# Altium footprint library Tray2.PcbLib: 104 footprints (part 6 of 7)
Each footprint in its own frame and in the unit in brackets; x right, y up, seen from the top. Pads: shape width x height; smd on the part's side, far side on the other; paste and mask are expansions set on the pad; w line width, h text height; cw(c..) or ccw(c..) is an arc to the next point about the centre after c.
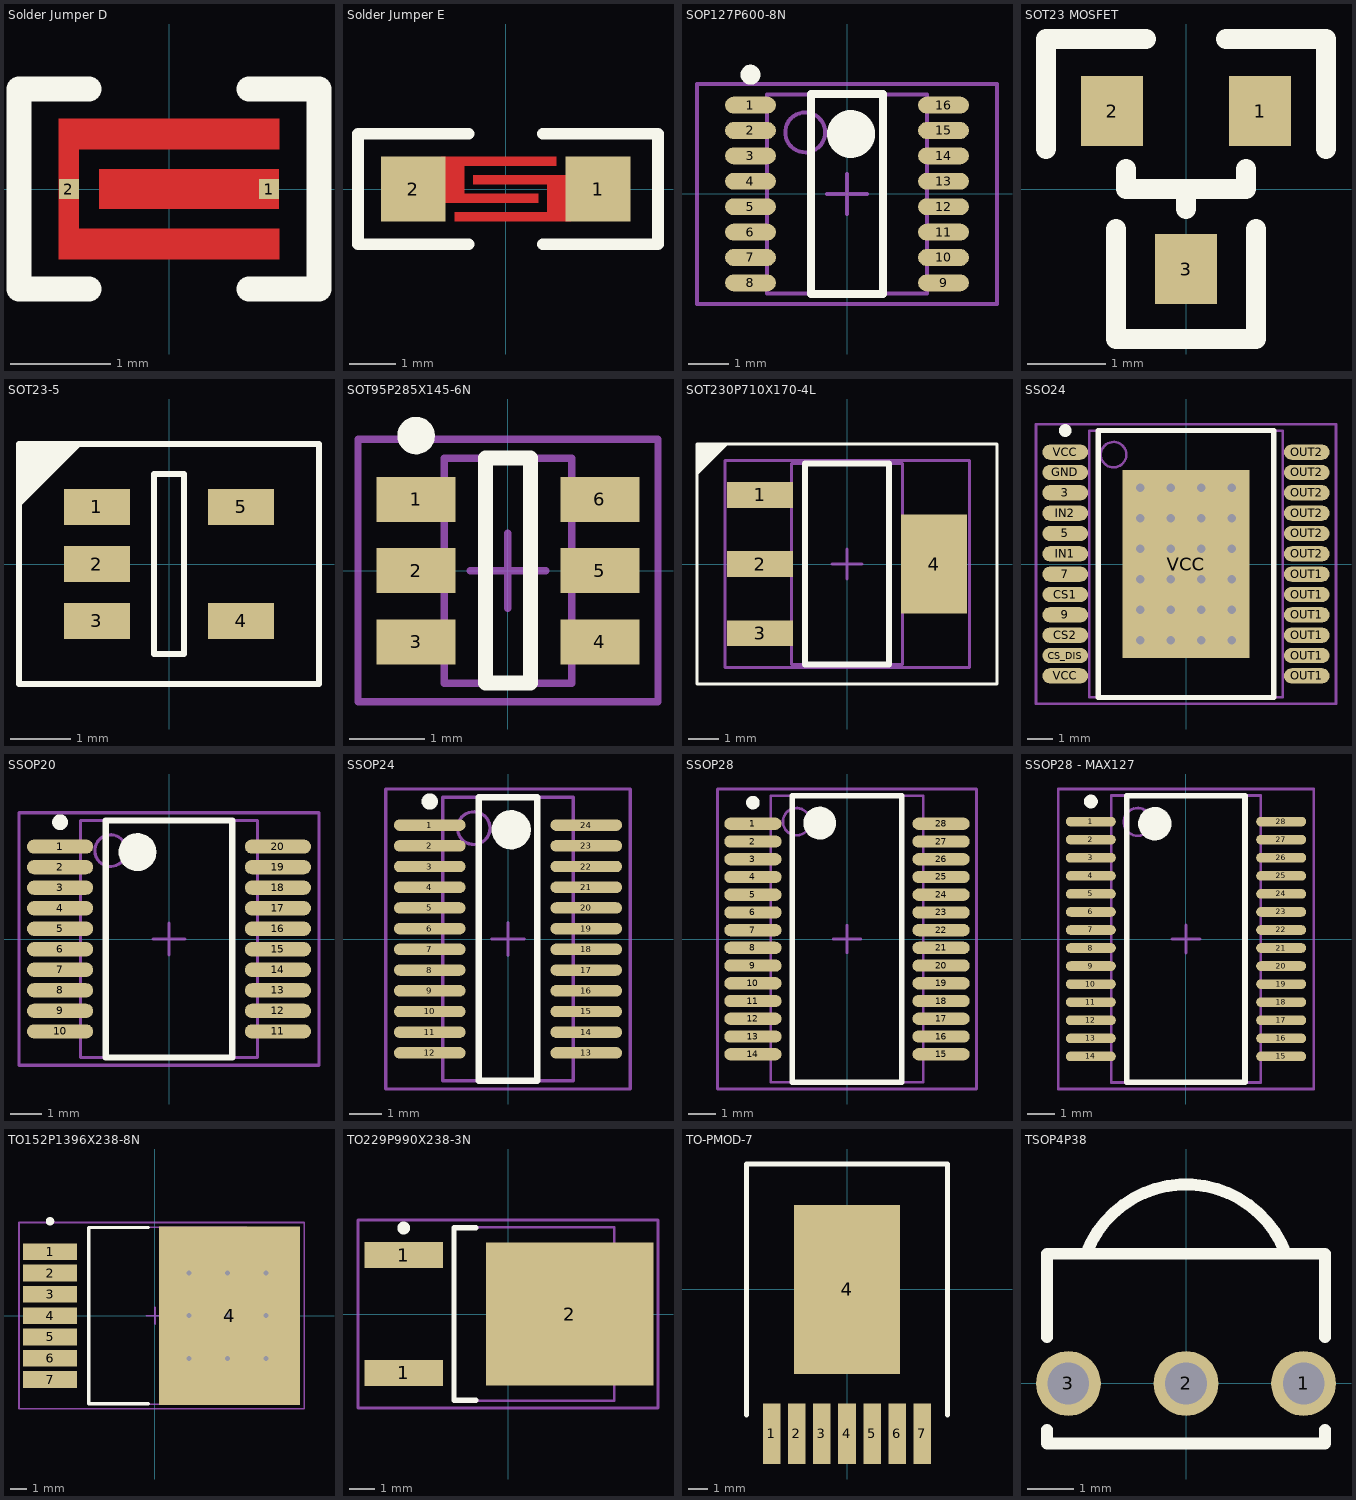
[diagram p5: the footprints below, top view; thin cyan lines are the x and y axes]

## Solder Jumper D [mm] "Solder Jumper D"
pads (2):
  rect 0.2x0.2 smd: 1(1,0) 2(-1,0)
Top Layer:
  rectangle: -0.7,-0.2 1.1,0.2
  region: 1.1,0.4 1.1,0.7 -1.1,0.7 -1.1,-0.7 1.1,-0.7 1.1,-0.4 -0.9,-0.4 -0.9,0.4
Top Overlay:
  lines w0.254: -0.8,-1 -1.5,-1 -1.5,1 -0.8,1 ; 0.8,-1 1.5,-1 1.5,1 0.8,1
Top Solder:
  region: 1.2,0.8 1.2,-0.8 -1.2,-0.8 -1.2,0.8

## Solder Jumper E [mm] "Solder Jumper E"
pads (2):
  rect 1.4x1.4 smd: 1(2,0) 2(-2,0)
Top Layer:
  region: -0.7,0.3 -0.7,0.1 0.9,0.1 0.9,-0.5 -1.1,-0.5 -1.1,-0.7 1.4,-0.7 1.4,0.3
  region: -1.4,0.7 1.1,0.7 1.1,0.5 -0.9,0.5 -0.9,-0.1 0.7,-0.1 0.7,-0.3 -1.4,-0.3
Top Overlay:
  lines w0.254: -0.8,-1.2 -3.2,-1.2 -3.2,1.2 -0.8,1.2 ; 0.8,-1.2 3.3,-1.2 3.3,1.2 0.8,1.2
Top Solder:
  region: 1.5,0.8 1.5,-0.8 -1.5,-0.8 -1.5,0.8

## SOP127P600-8N [mil]
height 68.9
pads (16):
  oval 50x16.5 smd: 1(-95,87.5) 2(-95,62.5) 3(-95,37.5) 4(-95,12.5) 5(-95,-12.5) 6(-95,-37.5) 7(-95,-62.5) 8(-95,-87.5) 9(95,-87.5) 10(95,-62.5) 11(95,-37.5) 12(95,-12.5) 13(95,12.5) 14(95,37.5) 15(95,62.5) 16(95,87.5)
Top Overlay:
  circle w23.62: c3.94,59.06 r11.81
  circle w9.84: c-95,117.4 r4.92
  lines w7.87: -35.43,-98.43 35.43,-98.43 35.43,98.43 -35.43,98.43 -35.43,-98.43
Mechanical 13:
  circle w3.94: c-41.14,60.63 r19.68
  lines w3.94: -78.54,-98.03 78.54,-98.03 78.54,98.03 -78.54,98.03 -78.54,-98.03
Mechanical 15:
  lines w3.94: -19.68,0 19.68,0 ; 0,-19.68 0,19.68 ; -147.64,-108.27 147.64,-108.27 147.64,108.27 -147.64,108.27 -147.64,-108.27
3D body: height 68.9, standoff 9.84, extent -78.54,-98.03 78.54,98.03

## SOT23 MOSFET [mil]
pads (3):
  rect 31x35 smd: 1(37,39) 2(-37,39) 3(0,-40)
Top Overlay:
  lines w10: -70,20 -70,75 -20,75 ; -35,-20 -35,-75 35,-75 35,-20 ; -30,10 -30,0 30,0 30,10 ; 0,-10 0,0 ; 20,75 70,75 70,20

## SOT23-5 [mm] "SOT23, 5-Leads, Body 3.0x3.0mm (max), Pitch 0.95mm, IPC Medium Density"
height 1.45
pads (5):
  rect 1.1x0.6 smd: 1(-1.2,0.95) 2(-1.2,0) 3(-1.2,-0.95) 4(1.2,-0.95) 5(1.2,0.95)
Top Overlay:
  region: -2.5,1 -2.5,2 -1.5,2
  lines w0.1: -2.5,1 -1.5,2 ; -2.5,-2 -2.5,2 2.5,2 2.5,-2 -2.5,-2 ; -0.25,-1.5 0.25,-1.5 0.25,1.5 -0.25,1.5 -0.25,-1.5
3D body: height 1.45, standoff 0, extent -0.85,-1.5 0.85,1.5

## SOT95P285X145-6N [mm] "SOT23, 6-Leads, Body 3.0x3.0mm (max), Pitch 0.95mm, IPC Medium Density"
height 1.45
pads (6):
  rect 1.05x0.6 smd: 1(-1.225,0.95) 2(-1.225,0) 3(-1.225,-0.95) 4(1.225,-0.95) 5(1.225,0) 6(1.225,0.95)
Top Overlay:
  circle w0.25: c-1.225,1.8 r0.125
  lines w0.2: -0.3,-1.5 -0.3,1.5 0.3,1.5 0.3,-1.5 -0.3,-1.5
Mechanical 13:
  lines w0.1: -0.85,-1.5 0.85,-1.5 0.85,1.5 -0.85,1.5 -0.85,-1.5
Mechanical 15:
  lines w0.1: -0.5,0 0.5,0 ; 0,-0.5 0,0.5 ; -2,-1.75 2,-1.75 2,1.75 -2,1.75 -2,-1.75
3D body: height 1.45, standoff 0.05, extent -0.85,-1.5 0.85,1.5

## SOT230P710X170-4L [mm] "SOT223, 4-Leads, Body 6.7x7.5mm (max), Pitch 2.30mm, IPC High Density"
height 1.7
pads (4):
  rect 2.2x0.85 smd: 1(-2.9,2.3) 2(-2.9,0) 3(-2.9,-2.3)
  rect 2.2x3.3 smd: 4(2.9,0)
Top Overlay:
  region: -4,4 -5,4 -5,3
  lines w0.1: -5,3 -4,4 ; -5,-4 -5,4 5,4 5,-4 -5,-4
  lines w0.2: -1.4,-3.35 1.4,-3.35 1.4,3.35 -1.4,3.35 -1.4,-3.35
Mechanical 13:
  lines w0.1: -1.855,-3.35 1.855,-3.35 1.855,3.35 -1.855,3.35 -1.855,-3.35
Mechanical 15:
  lines w0.1: -0.5,0 0.5,0 ; 0,-0.5 0,0.5 ; -4.075,-3.45 4.075,-3.45 4.075,3.45 -4.075,3.45 -4.075,-3.45
3D body: height 1.7, standoff 0.02, extent -1.855,-3.35 1.855,3.35

## SSO24 [mm]
height 2.45
pads (25):
  oval 1.8x0.6 smd: 3(-4.75,2.8) 5(-4.75,1.2) 7(-4.75,-0.4) 9(-4.75,-2) CS1(-4.75,-1.2) CS2(-4.75,-2.8) CS_DIS(-4.75,-3.6) GND(-4.75,3.6) IN1(-4.75,0.4) IN2(-4.75,2) OUT1(4.75,-4.4) OUT1(4.75,-3.6) OUT1(4.75,-2.8) OUT1(4.75,-2) OUT1(4.75,-1.2) OUT1(4.75,-0.4) OUT2(4.75,0.4) OUT2(4.75,1.2) OUT2(4.75,2) OUT2(4.75,2.8) OUT2(4.75,3.6) OUT2(4.75,4.4) VCC(-4.75,-4.4) VCC(-4.75,4.4)
  rect 5x7.4 smd: VCC(0,0)
via 1.8,-3 diameter 0.66 hole 0.33
via 0.6,-3 diameter 0.66 hole 0.33
via -0.6,-3 diameter 0.66 hole 0.33
via -1.8,-3 diameter 0.66 hole 0.33
via 1.8,-1.8 diameter 0.66 hole 0.33
via 0.6,-1.8 diameter 0.66 hole 0.33
via -0.6,-1.8 diameter 0.66 hole 0.33
via -1.8,-1.8 diameter 0.66 hole 0.33
via 1.8,-0.6 diameter 0.66 hole 0.33
via 0.6,-0.6 diameter 0.66 hole 0.33
via -0.6,-0.6 diameter 0.66 hole 0.33
via -1.8,-0.6 diameter 0.66 hole 0.33
via 1.8,0.6 diameter 0.66 hole 0.33
via 0.6,0.6 diameter 0.66 hole 0.33
via -0.6,0.6 diameter 0.66 hole 0.33
via -1.8,0.6 diameter 0.66 hole 0.33
via 1.8,1.8 diameter 0.66 hole 0.33
via 0.6,1.8 diameter 0.66 hole 0.33
via -0.6,1.8 diameter 0.66 hole 0.33
via -1.8,1.8 diameter 0.66 hole 0.33
via 1.8,3 diameter 0.66 hole 0.33
via 0.6,3 diameter 0.66 hole 0.33
via -0.6,3 diameter 0.66 hole 0.33
via -1.8,3 diameter 0.66 hole 0.33
Top Overlay:
  circle w0.25: c-4.75,5.25 r0.125
  lines w0.2: -3.45,-5.25 3.45,-5.25 3.45,5.25 -3.45,5.25 -3.45,-5.25
Mechanical 13:
  circle w0.1: c-2.85,4.3 r0.5
  lines w0.1: -3.8,-5.25 3.8,-5.25 3.8,5.25 -3.8,5.25 -3.8,-5.25
Mechanical 15:
  lines w0.1: -0.5,0 0.5,0 ; 0,-0.5 0,0.5 ; -5.9,-5.5 5.9,-5.5 5.9,5.5 -5.9,5.5 -5.9,-5.5
3D body: height 2.45, standoff 0.1, extent -3.8,-5.25 3.8,5.25

## SSOP20 [mm]
height 2
pads (20):
  oval 2.1x0.45 smd: 1(-3.45,2.925) 2(-3.45,2.275) 3(-3.45,1.625) 4(-3.45,0.975) 5(-3.45,0.325) 6(-3.45,-0.325) 7(-3.45,-0.975) 8(-3.45,-1.625) 9(-3.45,-2.275) 10(-3.45,-2.925) 11(3.45,-2.925) 12(3.45,-2.275) 13(3.45,-1.625) 14(3.45,-0.975) 15(3.45,-0.325) 16(3.45,0.325) 17(3.45,0.975) 18(3.45,1.625) 19(3.45,2.275) 20(3.45,2.925)
Top Overlay:
  circle w0.6: c-1,2.75 r0.3
  circle w0.25: c-3.45,3.7 r0.125
  lines w0.2: -2,-3.75 2,-3.75 2,3.75 -2,3.75 -2,-3.75
Mechanical 13:
  circle w0.1: c-1.85,2.8 r0.5
  lines w0.1: -2.8,-3.75 2.8,-3.75 2.8,3.75 -2.8,3.75 -2.8,-3.75
Mechanical 15:
  lines w0.1: -0.5,0 0.5,0 ; 0,-0.5 0,0.5 ; -4.75,-4 4.75,-4 4.75,4 -4.75,4 -4.75,-4
3D body: height 2, standoff 0.1, extent -2.8,-3.75 2.8,3.75

## SSOP24 [mm]
height 1.1
pads (24):
  oval 2.2x0.35 smd: 1(-2.4,3.492) 2(-2.4,2.857) 3(-2.4,2.222) 4(-2.4,1.587) 5(-2.4,0.953) 6(-2.4,0.318) 7(-2.4,-0.318) 8(-2.4,-0.953) 9(-2.4,-1.587) 10(-2.4,-2.222) 11(-2.4,-2.857) 12(-2.4,-3.492) 13(2.4,-3.492) 14(2.4,-2.857) 15(2.4,-2.222) 16(2.4,-1.587) 17(2.4,-0.953) 18(2.4,-0.318) 19(2.4,0.318) 20(2.4,0.953) 21(2.4,1.587) 22(2.4,2.222) 23(2.4,2.857) 24(2.4,3.492)
Top Overlay:
  circle w0.25: c-2.4,4.217 r0.125
  circle w0.6: c0.1,3.35 r0.3
  lines w0.2: -0.9,-4.35 -0.9,4.35 0.9,4.35 0.9,-4.35 -0.9,-4.35
Mechanical 13:
  circle w0.1: c-1.05,3.4 r0.5
  lines w0.1: -2,-4.35 -2,4.35 2,4.35 2,-4.35 -2,-4.35
Mechanical 15:
  lines w0.1: -0.5,0 0.5,0 ; 0,-0.5 0,0.5 ; -3.75,-4.6 -3.75,4.6 3.75,4.6 3.75,-4.6 -3.75,-4.6
3D body: height 1.1, standoff 0.1, extent -2,-4.35 2,4.35

## SSOP28 [mm]
height 2
pads (28):
  oval 2.1x0.45 smd: 1(-3.45,4.225) 2(-3.45,3.575) 3(-3.45,2.925) 4(-3.45,2.275) 5(-3.45,1.625) 6(-3.45,0.975) 7(-3.45,0.325) 8(-3.45,-0.325) 9(-3.45,-0.975) 10(-3.45,-1.625) 11(-3.45,-2.275) 12(-3.45,-2.925) 13(-3.45,-3.575) 14(-3.45,-4.225) 15(3.45,-4.225) 16(3.45,-3.575) 17(3.45,-2.925) 18(3.45,-2.275) 19(3.45,-1.625) 20(3.45,-0.975) 21(3.45,-0.325) 22(3.45,0.325) 23(3.45,0.975) 24(3.45,1.625) 25(3.45,2.275) 26(3.45,2.925) 27(3.45,3.575) 28(3.45,4.225)
Top Overlay:
  circle w0.6: c-1,4.25 r0.3
  circle w0.25: c-3.45,5 r0.125
  lines w0.2: -2,-5.25 2,-5.25 2,5.25 -2,5.25 -2,-5.25
Mechanical 13:
  circle w0.1: c-1.85,4.3 r0.5
  lines w0.1: -2.8,-5.25 2.8,-5.25 2.8,5.25 -2.8,5.25 -2.8,-5.25
Mechanical 15:
  lines w0.1: -0.5,0 0.5,0 ; 0,-0.5 0,0.5 ; -4.75,-5.5 4.75,-5.5 4.75,5.5 -4.75,5.5 -4.75,-5.5
3D body: height 2, standoff 0.1, extent -2.8,-5.25 2.8,5.25

## SSOP28 - MAX127 [mm] "SOP, 28-Leads, Body 10.3x5.4mm (max), Pitch 0.65mm, IPC Medium Density"
height 1.99
pads (28):
  oval 1.8x0.35 smd: 1(-3.425,4.225) 2(-3.425,3.575) 3(-3.425,2.925) 4(-3.425,2.275) 5(-3.425,1.625) 6(-3.425,0.975) 7(-3.425,0.325) 8(-3.425,-0.325) 9(-3.425,-0.975) 10(-3.425,-1.625) 11(-3.425,-2.275) 12(-3.425,-2.925) 13(-3.425,-3.575) 14(-3.425,-4.225) 15(3.425,-4.225) 16(3.425,-3.575) 17(3.425,-2.925) 18(3.425,-2.275) 19(3.425,-1.625) 20(3.425,-0.975) 21(3.425,-0.325) 22(3.425,0.325) 23(3.425,0.975) 24(3.425,1.625) 25(3.425,2.275) 26(3.425,2.925) 27(3.425,3.575) 28(3.425,4.225)
Top Overlay:
  circle w0.6: c-1.125,4.15 r0.3
  circle w0.25: c-3.425,4.95 r0.125
  lines w0.2: -2.125,-5.15 2.125,-5.15 2.125,5.15 -2.125,5.15 -2.125,-5.15
Mechanical 13:
  circle w0.1: c-1.74,4.215 r0.5
  lines w0.1: -2.69,-5.165 2.69,-5.165 2.69,5.165 -2.69,5.165 -2.69,-5.165
Mechanical 15:
  lines w0.1: -0.5,0 0.5,0 ; 0,-0.5 0,0.5 ; -4.6,-5.4 4.6,-5.4 4.6,5.4 -4.6,5.4 -4.6,-5.4
3D body: height 1.99, standoff 0.1, extent -2.69,-5.165 2.69,5.165

## TO152P1396X238-8N [mm] "D2-PAK, 8-Pads, Body 9.4x10.5mm (max), IPC Medium Density"
height 2.38
pads (8):
  rect 3.2x1 smd: 1(-6.25,3.81) 2(-6.25,2.54) 3(-6.25,1.27) 4(-6.25,0) 5(-6.25,-1.27) 6(-6.25,-2.54) 7(-6.25,-3.81)
  rect 8.382x10.65 smd: 4(4.445,0)
via 2.032,-2.54 diameter 0.5 hole 0.3
via 2.032,0 diameter 0.5 hole 0.3
via 2.032,2.54 diameter 0.5 hole 0.3
via 6.604,2.54 diameter 0.5 hole 0.3
via 6.604,0 diameter 0.5 hole 0.3
via 6.604,-2.54 diameter 0.5 hole 0.3
via 4.318,-2.54 diameter 0.5 hole 0.3
via 4.318,2.54 diameter 0.5 hole 0.3
via 4.318,0 diameter 0.5 hole 0.3
Top Overlay:
  circle w0.25: c-6.25,5.622 r0.125
  lines w0.2: -0.4,-5.25 -3.95,-5.25 -3.95,5.25 -0.4,5.25
Mechanical 13:
  lines w0.1: -3.95,-5.275 5.45,-5.275 5.45,5.275 -3.95,5.275 -3.95,-5.275
Mechanical 15:
  lines w0.1: -0.5,0 0.5,0 ; 0,-0.5 0,0.5 ; -8.1,-5.55 8.89,-5.55 8.89,5.55 -8.1,5.55 -8.1,-5.55
3D body: height 2.38, standoff 0, extent -3.95,-5.275 5.45,5.275

## TO229P990X238-3N [mm] "D-PAK, 3-Pads, Body 6.2x6.7mm (max), IPC Medium Density"
height 2.38
pads (3):
  rect 3.05x1 smd: 1(-4.05,-2.29) 1(-4.05,2.29)
  rect 6.5x5.55 smd: 2(2.4,0)
Top Overlay:
  circle w0.25: c-4.05,3.34 r0.125
  lines w0.2: -1.25,-3.35 -2.1,-3.35 -2.1,3.35 -1.25,3.35
Mechanical 13:
  lines w0.1: -2.1,-3.375 4.12,-3.375 4.12,3.375 -2.1,3.375 -2.1,-3.375
Mechanical 15:
  lines w0.1: -0.5,0 0.5,0 ; 0,-0.5 0,0.5 ; -5.825,-3.65 5.825,-3.65 5.825,3.65 -5.825,3.65 -5.825,-3.65
3D body: height 2.38, standoff 0, extent -2.1,-3.375 4.12,3.375

## TO-PMOD-7 [mm]
height 5.08
pads (8):
  rect 0.89x3.06 smd: 1(-3.81,-7.305) 2(-2.54,-7.305) 3(-1.27,-7.305) 4(0,-7.305) 5(1.27,-7.305) 6(2.54,-7.305) 7(3.81,-7.305)
  rect 5.35x8.54 smd: 4(0,0)
Top Overlay:
  lines w0.254: -5.08,-6.35 -5.08,6.35 5.08,6.35 5.08,-6.35
3D body: height 5.08, standoff 0, extent -4.75,-5 4.75,6

## TSOP4P38 [mm]
pads (3):
  round 1.4 hole 0.9: 1(2.54,0) 2(0,0) 3(-2.54,0)
Top Overlay:
  lines w0.254: -3,-1 -3,-1.3 3,-1.3 3,-1 ; -3,1 -3,2.8 3,2.8 3,1 ; -2.149,2.819 cw(c0,2) 2.149,2.819